# EAGLE library part G6Z-1FE (library NewSDR)
OMRON G6Z-1FE
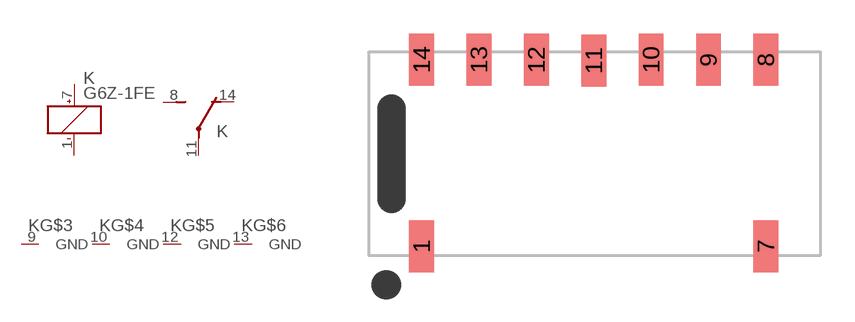
[diagram p131: symbol with the pads of G6Z-1FE; footprint G6Z-1FE]

Designator prefix K; gates G$1=K+- G$2=U G$3=GND-1 G$4=GND-1 G$5=GND-1 G$6=GND-1

## G6Z-1FE  [G6Z-1FE]
1  G$1:-  pas
7  G$1:+  pas
8  G$2:S  pas
9  G$3:GND  pwr
10  G$4:GND  pwr
11  G$2:P  pas
12  G$5:GND  pwr
13  G$6:GND  pwr
14  G$2:O  pas

## Footprint G6Z-1FE (pad centres in mm)
OMRON G6Z-1FE
smd 1.1 x 2.3: 1 -7.66,-4.1; 7 7.58,-4.1; 8 7.58,4.16; 9 5.04,4.16; 10 2.5,4.16; 11 -0.04,4.12; 12 -2.58,4.16; 13 -5.12,4.16; 14 -7.66,4.16